# Altium footprint library SSCLib1.PcbLib: 25 footprints (part 2 of 2)
Each footprint in its own frame and in the unit in brackets; x right, y up, seen from the top. Pads: shape width x height; smd on the part's side, far side on the other; paste and mask are expansions set on the pad; w line width, h text height; cw(c..) or ccw(c..) is an arc to the next point about the centre after c.
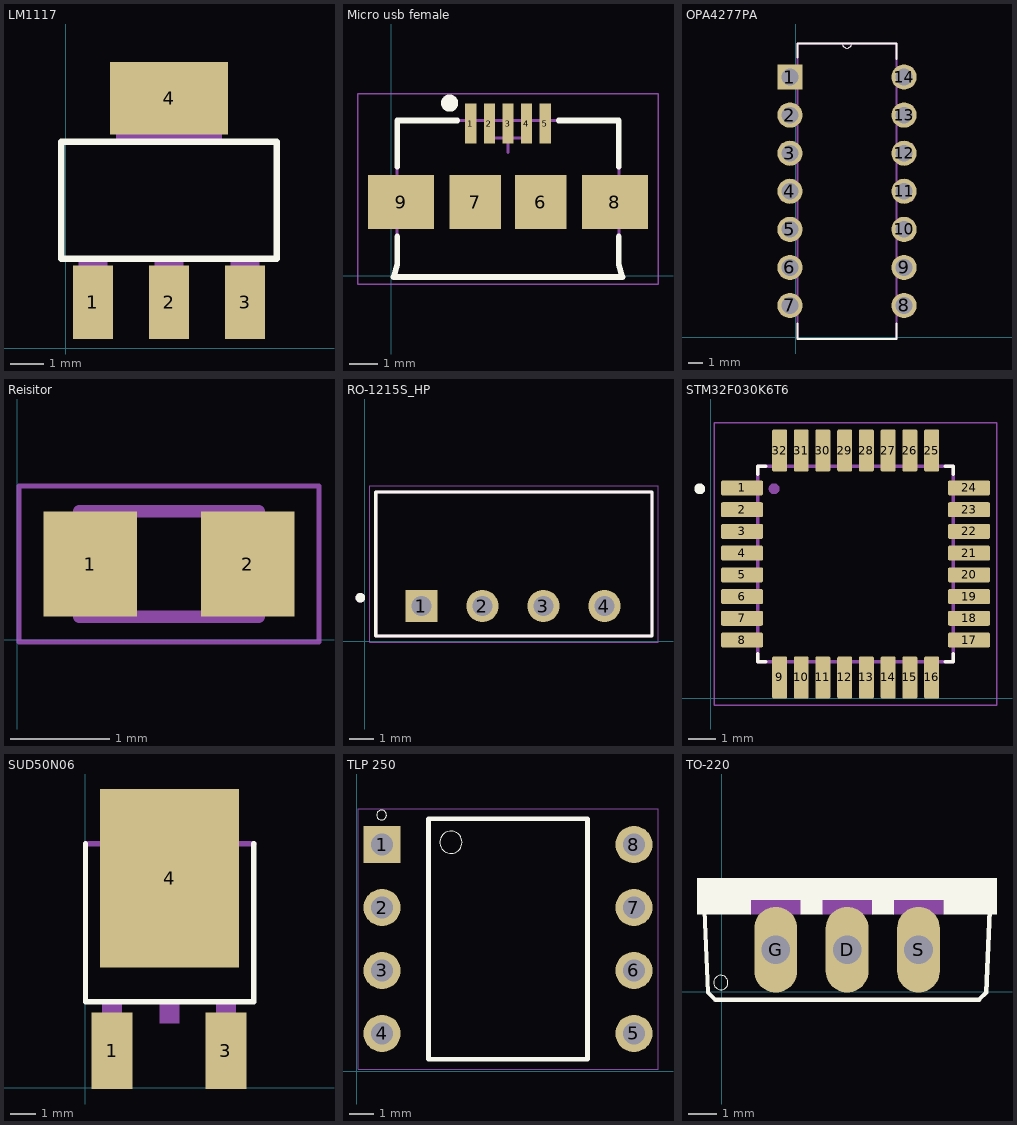
[diagram p1: the footprints below, top view; thin cyan lines are the x and y axes]

## LM1117 [mil]
pads (4):
  rect 48x88 smd: 1(32.5,55.36) 2(123.5,55.36) 3(214.5,55.36)
  rect 141.73x86.61 smd: 4(123.5,299.37)
Top Overlay:
  lines w8: -5.5,107.36 -5.5,247.36 252.5,247.36 252.5,107.36 -5.5,107.36
Mechanical 4:
  region: 197.5,106.36 231.5,106.36 231.5,33.36 197.5,33.36
  region: 15.5,106.36 49.5,106.36 49.5,33.36 15.5,33.36
  region: 106.5,106.36 140.5,106.36 140.5,33.36 106.5,33.36
  region: 60.5,321.36 186.5,321.36 186.5,248.36 60.5,248.36
  region: 197.5,106.36 231.5,106.36 231.5,33.36 197.5,33.36
  region: 15.5,106.36 49.5,106.36 49.5,33.36 15.5,33.36
  region: 106.5,106.36 140.5,106.36 140.5,33.36 106.5,33.36
  region: 60.5,321.36 186.5,321.36 186.5,248.36 60.5,248.36
  region: 197.5,106.36 231.5,106.36 231.5,33.36 197.5,33.36
  region: 15.5,106.36 49.5,106.36 49.5,33.36 15.5,33.36
  region: 106.5,106.36 140.5,106.36 140.5,33.36 106.5,33.36
  region: 60.5,321.36 186.5,321.36 186.5,248.36 60.5,248.36
  region: 197.5,106.36 231.5,106.36 231.5,33.36 197.5,33.36
  region: 15.5,106.36 49.5,106.36 49.5,33.36 15.5,33.36
  region: 106.5,106.36 140.5,106.36 140.5,33.36 106.5,33.36
  region: 60.5,321.36 186.5,321.36 186.5,248.36 60.5,248.36
3D body "User Library-SOT-223-1.STEP": height 54.72, standoff -10.24, extent -2.96,43.31 252.95,318.9

## Micro usb female [mm]
pads (9):
  rect 0.4x1.4 smd: 1(2.787,5.336) 2(3.437,5.336) 3(4.087,5.336) 4(4.737,5.336) 5(5.387,5.336)
  rect 1.8x1.9 smd: 6(5.237,2.586) 7(2.937,2.586)
  rect 2.3x1.9 smd: 8(7.837,2.586) 9(0.337,2.586)
Top Overlay:
  circle w0.4: c2.039,6.055 r0.1
  lines w0.2: 0.201,1.382 0.201,0.391 0.074,-0.041 8.1,-0.041 7.973,0.391 7.973,1.382 ; 0.201,3.82 0.201,5.446 2.309,5.446 ; 5.865,5.446 7.973,5.446 7.973,3.82
Mechanical 13:
  lines w0.1: 0.074,-0.041 8.1,-0.041 7.973,0.391 7.973,5.446 0.201,5.446 0.201,0.391 0.074,-0.041
Mechanical 15:
  lines w0.05: -1.171,-0.295 9.345,-0.295 9.345,6.385 -1.171,6.385 -1.171,-0.295
  lines w0.1: 3.579,4.836 4.595,4.836 ; 4.087,4.328 4.087,5.344
3D body "User Library-3067-47340001R-Rev_01.step": height 2.77, standoff -0.17, extent -0.05,-0.155 8.15,5.775

## OPA4277PA [mil]
pads (14):
  rect 66x66 hole 44: 1(-14.96,683.7)
  round 66 hole 44: 2(-14.96,583.7) 3(-14.96,483.7) 4(-14.96,383.7) 5(-14.96,283.7) 6(-14.96,183.7) 7(-14.96,83.7) 8(285.04,83.7) 9(285.04,183.7) 10(285.04,283.7) 11(285.04,383.7) 12(285.04,483.7) 13(285.04,583.7) 14(285.04,683.7)
Top Overlay:
  lines w0: 123.04,771.7 ccw(c135.04,771.7) 147.04,771.7
  lines w6: 5.04,35.7 5.04,-4.3 265.04,-4.3 265.04,35.7 ; 5.04,735.7 5.04,771.7 123.04,771.7 147.04,771.7 265.04,771.7 265.04,731.7
Mechanical 4:
  lines w0: 123.04,771.7 ccw(c135.04,771.7) 147.04,771.7 cw(c135.04,771.7) 123.04,771.7
  lines w6: -36.96,61.7 -36.96,105.7 ; -36.96,61.7 5.04,61.7 ; -36.96,61.7 -36.96,105.7 ; -36.96,61.7 5.04,61.7 ; -36.96,105.7 5.04,105.7 ; -36.96,105.7 5.04,105.7 ; -36.96,161.7 -36.96,205.7 ; -36.96,161.7 5.04,161.7 ; -36.96,161.7 -36.96,205.7 ; -36.96,161.7 5.04,161.7 ; -36.96,205.7 5.04,205.7 ; -36.96,205.7 5.04,205.7 ; -36.96,261.7 -36.96,305.7 ; -36.96,261.7 5.04,261.7 ; -36.96,261.7 -36.96,305.7 ; -36.96,261.7 5.04,261.7 ; -36.96,305.7 5.04,305.7 ; -36.96,305.7 5.04,305.7 ; -36.96,361.7 -36.96,405.7 ; -36.96,361.7 5.04,361.7 ; -36.96,361.7 -36.96,405.7 ; -36.96,361.7 5.04,361.7 ; -36.96,405.7 5.04,405.7 ; -36.96,405.7 5.04,405.7 ; -36.96,461.7 -36.96,505.7 ; -36.96,461.7 5.04,461.7 ; -36.96,461.7 -36.96,505.7 ; -36.96,461.7 5.04,461.7 ; -36.96,505.7 5.04,505.7 ; -36.96,505.7 5.04,505.7 ; -36.96,561.7 -36.96,605.7 ; -36.96,561.7 5.04,561.7 ; -36.96,561.7 -36.96,605.7 ; -36.96,561.7 5.04,561.7 ; -36.96,605.7 5.04,605.7 ; -36.96,605.7 5.04,605.7 ; -36.96,661.7 -36.96,705.7 ; -36.96,661.7 5.04,661.7 ; -36.96,661.7 -36.96,705.7 ; -36.96,661.7 5.04,661.7 ; -36.96,705.7 5.04,705.7 ; -36.96,705.7 5.04,705.7 ; 5.04,-4.3 265.04,-4.3 ; 5.04,-4.3 5.04,771.7 ; 5.04,-4.3 265.04,-4.3 ; 5.04,-4.3 5.04,771.7 ; 5.04,61.7 5.04,105.7 ; 5.04,61.7 5.04,105.7 ; 5.04,161.7 5.04,205.7 ; 5.04,161.7 5.04,205.7 ; 5.04,261.7 5.04,305.7 ; 5.04,261.7 5.04,305.7 ; 5.04,361.7 5.04,405.7 ; 5.04,361.7 5.04,405.7 ; 5.04,461.7 5.04,505.7 ; 5.04,461.7 5.04,505.7 ; 5.04,561.7 5.04,605.7 ; 5.04,561.7 5.04,605.7 ; 5.04,661.7 5.04,705.7 ; 5.04,661.7 5.04,705.7 ; 5.04,771.7 123.04,771.7 ; 5.04,771.7 123.04,771.7 ; 123.04,771.7 147.04,771.7 ; 123.04,771.7 147.04,771.7 ; 147.04,771.7 265.04,771.7 ; 147.04,771.7 265.04,771.7 ; 265.04,-4.3 265.04,771.7 ; 265.04,-4.3 265.04,771.7 ; 265.04,61.7 265.04,105.7 ; 265.04,61.7 307.04,61.7 ; 265.04,61.7 265.04,105.7 ; 265.04,61.7 307.04,61.7 ; 265.04,105.7 307.04,105.7 ; 265.04,105.7 307.04,105.7 ; 265.04,161.7 265.04,205.7 ; 265.04,161.7 307.04,161.7 ; 265.04,161.7 265.04,205.7 ; 265.04,161.7 307.04,161.7 ; 265.04,205.7 307.04,205.7 ; 265.04,205.7 307.04,205.7 ; 265.04,261.7 265.04,305.7 ; 265.04,261.7 307.04,261.7 ; 265.04,261.7 265.04,305.7 ; 265.04,261.7 307.04,261.7 ; 265.04,305.7 307.04,305.7 ; 265.04,305.7 307.04,305.7 ; 265.04,361.7 265.04,405.7 ; 265.04,361.7 307.04,361.7 ; 265.04,361.7 265.04,405.7 ; 265.04,361.7 307.04,361.7 ; 265.04,405.7 307.04,405.7 ; 265.04,405.7 307.04,405.7 ; 265.04,461.7 265.04,505.7 ; 265.04,461.7 307.04,461.7 ; 265.04,461.7 265.04,505.7 ; 265.04,461.7 307.04,461.7 ; 265.04,505.7 307.04,505.7 ; 265.04,505.7 307.04,505.7 ; 265.04,561.7 265.04,605.7 ; 265.04,561.7 307.04,561.7 ; 265.04,561.7 265.04,605.7 ; 265.04,561.7 307.04,561.7 ; 265.04,605.7 307.04,605.7 ; 265.04,605.7 307.04,605.7 ; 265.04,661.7 265.04,705.7 ; 265.04,661.7 307.04,661.7 ; 265.04,661.7 265.04,705.7 ; 265.04,661.7 307.04,661.7 ; 265.04,705.7 307.04,705.7 ; 265.04,705.7 307.04,705.7 ; 307.04,61.7 307.04,105.7 ; 307.04,61.7 307.04,105.7 ; 307.04,161.7 307.04,205.7 ; 307.04,161.7 307.04,205.7 ; 307.04,261.7 307.04,305.7 ; 307.04,261.7 307.04,305.7 ; 307.04,361.7 307.04,405.7 ; 307.04,361.7 307.04,405.7 ; 307.04,461.7 307.04,505.7 ; 307.04,461.7 307.04,505.7 ; 307.04,561.7 307.04,605.7 ; 307.04,561.7 307.04,605.7 ; 307.04,661.7 307.04,705.7 ; 307.04,661.7 307.04,705.7
3D body "CircuitWorks-DIP-14.STEP": height 134.25, standoff -140.55, extent -20.66,13.78 294.3,763.78

## Reisitor [mm]
pads (2):
  rect 0.94x1.06 smd: 1(0.734,0.762) 2(2.314,0.762)
Mechanical 4:
  lines w0.127: 0.624,0.232 0.624,1.292 ; 0.624,0.232 2.424,0.232 ; 0.624,0.232 0.624,1.292 ; 0.624,0.232 2.424,0.232 ; 0.624,1.292 2.424,1.292 ; 0.624,1.292 2.424,1.292 ; 2.424,0.232 2.424,1.292 ; 2.424,0.232 2.424,1.292
Mechanical 16:
  lines w0.05: 0.016,-0.02 0.016,1.544 3.032,1.544 3.032,-0.02 0.016,-0.02
3D body "RES0603.STEP": height 0.43, standoff -0.08, extent 0.648,0.152 2.654,1.397

## RO-1215S_HP [mm]
pads (4):
  rect 1.338x1.338 hole 0.83: 1(2.35,1.475)
  round 1.338 hole 0.83: 2(4.89,1.475) 3(7.43,1.475) 4(9.97,1.475)
Top Overlay:
  circle w0.2: c-0.19,1.82 r0.1
  lines w0.127: 0.45,0.225 0.45,6.225 11.95,6.225 11.95,0.225 0.45,0.225
Mechanical 4:
  circle w0.2: c-0.19,1.82 r0.1
  circle w0.2: c-0.19,1.82 r0.1
  lines w0.127: 0.45,0.225 0.45,6.225 ; 0.45,0.225 11.95,0.225 ; 0.45,0.225 0.45,6.225 ; 0.45,0.225 11.95,0.225 ; 0.45,6.225 11.95,6.225 ; 0.45,6.225 11.95,6.225 ; 11.95,0.225 11.95,6.225 ; 11.95,0.225 11.95,6.225
Mechanical 16:
  lines w0.05: 0.2,-0.025 0.2,6.475 12.2,6.475 12.2,-0.025 0.2,-0.025
3D body "SIP4.stp": height 10.16, standoff -4.1, extent 0.45,0.375 12.05,6.475

## STM32F030K6T6 [mm]
pads (32):
  rrect25% 1.56x0.55 smd: 1(1.154,7.753) 2(1.154,6.953) 3(1.154,6.153) 4(1.154,5.353) 5(1.154,4.553) 6(1.154,3.753) 7(1.154,2.953) 8(1.154,2.153) 17(9.514,2.153) 18(9.514,2.953) 19(9.514,3.753) 20(9.514,4.553) 21(9.514,5.353) 22(9.514,6.153) 23(9.514,6.953) 24(9.514,7.753)
  rrect25% 0.55x1.56 smd: 9(2.534,0.773) 10(3.334,0.773) 11(4.134,0.773) 12(4.934,0.773) 13(5.734,0.773) 14(6.534,0.773) 15(7.334,0.773) 16(8.134,0.773) 25(8.134,9.133) 26(7.334,9.133) 27(6.534,9.133) 28(5.734,9.133) 29(4.934,9.133) 30(4.134,9.133) 31(3.334,9.133) 32(2.534,9.133)
Top Overlay:
  circle w0.2: c-0.406,7.723 r0.1
  lines w0.127: 1.734,1.653 1.734,1.353 2.034,1.353 ; 1.734,8.253 1.734,8.553 2.034,8.553 ; 8.634,1.353 8.934,1.353 8.934,1.653 ; 8.634,8.553 8.934,8.553 8.934,8.253
Mechanical 13:
  circle w0.2: c2.334,7.723 r0.1
  lines w0.127: 1.734,1.353 1.734,8.553 8.934,8.553 8.934,1.353 1.734,1.353
Mechanical 15:
  lines w0.05: 0.124,-0.257 0.124,10.163 10.544,10.163 10.544,-0.257 0.124,-0.257
3D body: height 1.01, standoff -8.01, extent 16.764,4.572 16.764,4.572
3D body "User Library-LQFP32.STEP": height 1.63, standoff -0.09, extent 0.834,0.508 9.834,9.508

## SUD50N06 [mil]
pads (3):
  rect 63x118 smd: 1(41.47,56.79) 3(217.47,56.79)
  rect 214.63x275.59 smd: 4(130.47,323.73)
Top Overlay:
  lines w8: 0.55,376.77 0.55,132.68 260.39,132.68 260.39,376.77
Mechanical 13:
  region: 56.47,24.76 26.46,24.76 26.46,129.79 56.47,129.79
  region: 232.47,24.38 202.6,24.38 202.6,129.79 232.47,129.79
  region: 145.47,99.5 115.44,99.5 115.44,129.79 145.47,129.79
  region: 228.9,406.3 228.9,376.77 32.05,376.77 32.05,406.3 65.51,427.95 195.43,427.95
  lines w8: 0.55,376.77 260.39,376.77
  text "1" at 35.29,151.1 h24.05
  text "2" at 122.47,151.26 h24.01
  text "3" at 208.49,151.27 h24.01
  text "4" at 117.47,323.3 h24
3D body "User Library-DPAK_TO-252AA.step": height 93.31, standoff -1.18, extent -2.63,20.75 262.48,418.39

## TLP 250 [mm]
pads (8):
  rect 1.5x1.5 hole 0.9: 1(1.016,9.144)
  round 1.5 hole 0.9: 2(1.016,6.604) 3(1.016,4.064) 4(1.016,1.524) 5(11.176,1.524) 6(11.176,4.064) 7(11.176,6.604) 8(11.176,9.144)
Top Overlay:
  circle w0.05: c3.796,9.234 r0.447
  circle w0.05: c0.996,10.334 r0.2
  lines w0.2: 2.896,0.484 9.296,0.484 9.296,10.184 2.896,10.184 2.896,0.484
Mechanical 15:
  lines w0.05: 0.046,0.084 12.146,0.084 12.146,10.584 0.046,10.584 0.046,0.084
3D body "User Library-8-pin-DIP_GW_HCPL-4200-300E.step": height 3.88, standoff -0.45, extent 1.146,0.381 11.046,10.281

## TO-220 [mil]
pads (3):
  oval 60x120 hole 40: D(175.79,59.06) G(75.79,59.06) S(275.79,59.06)
Top Overlay:
  circle w0: c-1.21,13.06 r10
  region: 385.79,129 -34.61,129 -34.61,159.06 385.79,159.06
  region: 40.79,109 -34.46,109 -34.46,129.06 40.79,129.06
  region: 140.79,108.97 110.68,108.97 110.68,129.06 140.79,129.06
  region: 240.79,109.02 210.81,109.02 210.81,129.06 240.79,129.06
  region: 385.79,109 310.93,109 310.93,129.06 385.79,129.06
  lines w6: -24.21,114.06 -19.21,-0.94 -9.21,-10.94 360.79,-10.94 370.79,-0.94 375.79,114.06
Mechanical 13:
  region: 110.79,109 40.65,109 40.65,129.06 110.79,129.06
  region: 210.79,109.05 140.78,109.05 140.78,129.06 210.79,129.06
  region: 310.79,109.04 240.81,109.04 240.81,129.06 310.79,129.06
3D body "TO 220_BTA16.STEP": height 750.4, standoff -383.46, extent -26.57,-13.2 375,163.97